# EAGLE library part UCC27511A-Q1 (library Gate_Drivers)
Single-Channel High-Speed Low-Side Gate Driver With 4-A Peak Source and 8-A Peak Sink
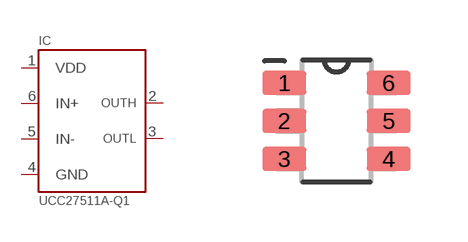
[diagram p5: symbol with the pads of SOT-23-6; footprint SOT-23-6]

Designator prefix IC

## UCC27511A-Q1  [SOT-23-6]
1  VDD
2  OUTH
3  OUTL
4  GND
5  IN-
6  IN+

## Footprint SOT-23-6 (pad centres in mm)
smd 1.1 x 0.6: 1 -1.306,0.95; 2 -1.306,0; 3 -1.306,-0.95; 4 1.306,-0.95; 5 1.306,0; 6 1.306,0.95